# Altium schematic symbol library LT6650IS5#TRPBF.SchLib: 1 symbol
Pins are listed as number, name and electrical type; pins without a type are passive.

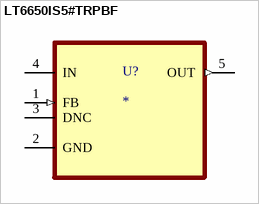
[diagram p0: symbol LT6650IS5#TRPBF]

## LT6650IS5#TRPBF
designator U?
Micropower, 400mV Reference with Rail-to-Rail Buffer Amplifier; MF: {'manufacturer': u'Analog Devices'}; MP: LT6650IS5#TRPBF; Package: None; Price: None; Value: *; Availability: Unavailable
footprint SOT95P280X100-5N
pins: 1 FB (in), 2 GND, 3 DNC, 4 IN (power), 5 OUT (out)